# EAGLE library part LP38500TJ-ADJ/NOPB (library Birdhouse)
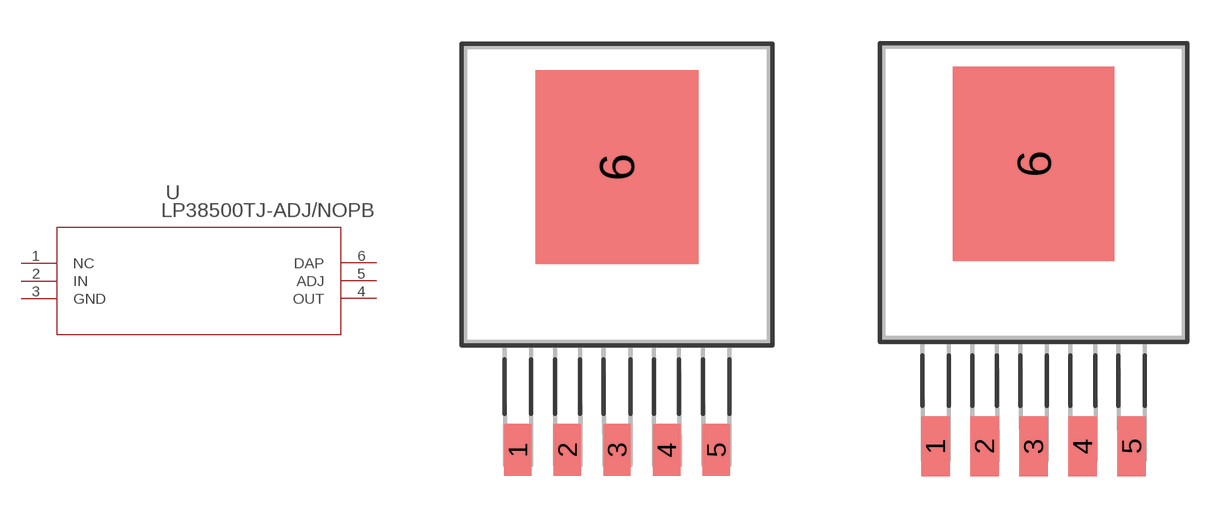
[diagram p5: symbol with the pads of TJ5A; footprints TJ5A, TJ5A-M]

Designator prefix -

## LP38500TJ-ADJ/NOPB (COPYRIGHT: Copyright (C) 2023 Ultra Librarian. All rights reserved.; DIGI-KEY_PART_NUMBER_1: LP38500TJ-ADJ/NOPBCT-ND; DIGI-KEY_PART_NUMBER_2: LP38500TJ-ADJ/NOPBDKR-ND; DIGI-KEY_PART_NUMBER_3: LP38500TJ-ADJ/NOPBTR-ND; DIGI-KEY_PART_NUMBER_4: 2156-LP38500TJ-ADJ/NOPB-ND; MANUFACTURER_PART_NUMBER: LP38500TJ-ADJ/NOPB; MFR_NAME: Texas Instruments)  [TJ5A]
1  NC  pas
2  IN  pwr
3  GND  pwr
4  OUT  pwr
5  ADJ  in
6  DAP  pwr

## LP38500TJ-ADJ/NOPBTJ5A-M (COPYRIGHT: Copyright (C) 2023 Ultra Librarian. All rights reserved.; DIGI-KEY_PART_NUMBER_1: LP38500TJ-ADJ/NOPBCT-ND; DIGI-KEY_PART_NUMBER_2: LP38500TJ-ADJ/NOPBDKR-ND; DIGI-KEY_PART_NUMBER_3: LP38500TJ-ADJ/NOPBTR-ND; DIGI-KEY_PART_NUMBER_4: 2156-LP38500TJ-ADJ/NOPB-ND; MANUFACTURER_PART_NUMBER: LP38500TJ-ADJ/NOPB; MFR_NAME: Texas Instruments)  [TJ5A-M]
Pads as for TJ5A

## LP38500TJ-ADJ/NOPBTJ5A-L (COPYRIGHT: Copyright (C) 2023 Ultra Librarian. All rights reserved.; DIGI-KEY_PART_NUMBER_1: LP38500TJ-ADJ/NOPBCT-ND; DIGI-KEY_PART_NUMBER_2: LP38500TJ-ADJ/NOPBDKR-ND; DIGI-KEY_PART_NUMBER_3: LP38500TJ-ADJ/NOPBTR-ND; DIGI-KEY_PART_NUMBER_4: 2156-LP38500TJ-ADJ/NOPB-ND; MANUFACTURER_PART_NUMBER: LP38500TJ-ADJ/NOPB; MFR_NAME: Texas Instruments)  [TJ5A-L]
Pads as for TJ5A

## Footprint TJ5A (pad centres in mm)
smd 0.94 x 1.778: 1 -3.404,-8.763; 2 -1.702,-8.763; 3 0,-8.763; 4 1.702,-8.763; 5 3.404,-8.763
smd 5.588 x 6.655: 6 0,0.94

## Footprint TJ5A-M (pad centres in mm)
smd 0.991 x 2.083: 1 -3.404,-8.814; 2 -1.702,-8.814; 3 0,-8.814; 4 1.702,-8.814; 5 3.404,-8.814
smd 5.588 x 6.756: 6 0,0.991

## Footprint TJ5A-L (pad centres in mm)
smd 0.889 x 1.473: 1 -3.404,-8.712; 2 -1.702,-8.712; 3 0,-8.712; 4 1.702,-8.712; 5 3.404,-8.712
smd 5.588 x 6.553: 6 0,0.889